# Altium footprint library uartproject.PcbLib: 10 footprints
Each footprint in its own frame and in the unit in brackets; x right, y up, seen from the top. Pads: shape width x height; smd on the part's side, far side on the other; paste and mask are expansions set on the pad; w line width, h text height; cw(c..) or ccw(c..) is an arc to the next point about the centre after c.
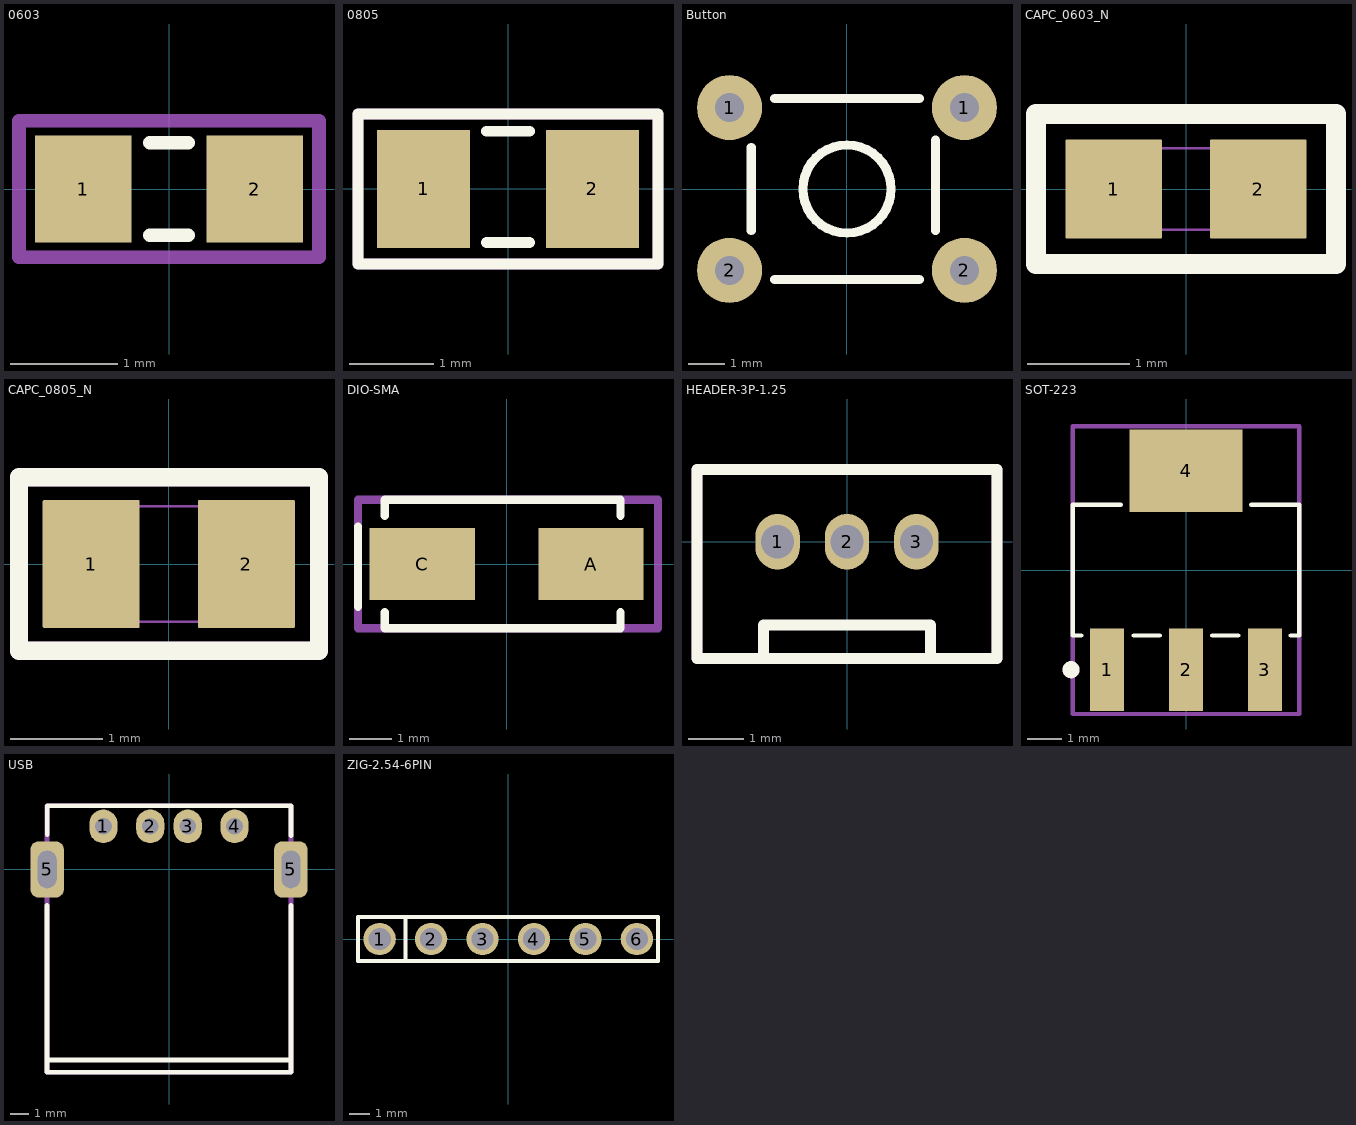
[diagram p0: the footprints below, top view; thin cyan lines are the x and y axes]

## 0603 [mm]
pads (2):
  rect 0.9x1 smd: 1(-0.8,0) 2(0.8,0)
Top Overlay:
  lines w0.127: -0.178,-0.432 0.178,-0.432 ; -0.178,0.432 0.178,0.432
Mechanical 13:
  lines w0.127: -1.397,-0.635 -1.397,0.635 1.397,0.635 1.397,-0.635 -1.397,-0.635
  text ".Designator" at -1.41,-0.21 h0.8
Mechanical 15:
  lines w0.127: -1.397,-0.635 1.397,-0.635 1.397,0.635 -1.397,0.635 -1.397,-0.635
  text ".Comment" at -1.4,-0.19 h0.8
3D body "User Library-FB_1608-1.STEP": height 0.8, standoff 0, extent -0.8,-0.4 0.8,0.4

## 0805 [mm]
pads (2):
  rect 1.1x1.397 smd: 1(-1,0) 2(1,0)
Top Overlay:
  lines w0.127: -0.254,-0.635 0.254,-0.635 ; -0.254,0.685 -0.127,0.685 0.127,0.685 0.254,0.685 ; -1.778,-0.889 1.778,-0.889 1.778,0.889 -1.778,0.889 -1.778,-0.889
Mechanical 13:
  lines w0.127: -1.778,-0.889 1.778,-0.889 1.778,0.889 -1.778,0.889 -1.778,-0.889
  text ".Designator" at -1.41,-0.21 h0.8
Mechanical 15:
  lines w0.127: -1.778,-0.889 1.778,-0.889 1.778,0.889 -1.778,0.889 -1.778,-0.889
  text ".Comment" at -1.4,-0.19 h0.8
3D body "User Library-FB_2012-1.STEP": height 0.85, standoff 0, extent -1,-0.625 1,0.625

## Button [mm]
pads (4):
  round 1.8 hole 0.8: 1(-3.25,2.25) 1(3.25,2.25) 2(-3.25,-2.25) 2(3.25,-2.25)
Top Overlay:
  circle w0.254: c0,0 r1.221
  lines w0.254: -2.65,-1.15 -2.65,1.15 ; -2,-2.5 2,-2.5 ; -2,2.5 2,2.5 ; 2.45,-1.15 2.45,1.35
3D body "TL1105AFxxxx.stp": height 5.21, standoff -3.34, extent -3.895,-3.036 3.999,2.964

## CAPC_0603_N [mm]
pads (2):
  rrect2% 0.95x0.97 smd: 1(-0.71,0) 2(0.71,0)
Top Overlay:
  lines w0.2: -1.473,-0.737 1.473,-0.737 1.473,0.737 -1.473,0.737 -1.473,-0.737
Mechanical 12:
  lines w0.025: -0.8,-0.4 0.8,-0.4 ; -0.8,-0.4 -0.8,0.4 ; -0.8,-0.4 -0.8,0.4 ; -0.8,-0.4 -0.4,-0.4 -0.4,0.4 -0.8,0.4 ; -0.8,0.4 0.8,0.4 ; 0.8,-0.4 0.8,0.4 ; 0.8,-0.4 0.4,-0.4 0.4,0.4 0.8,0.4 ; 0.8,-0.4 0.8,0.4
Mechanical 13:
  lines w0.2: -1.473,-0.737 1.473,-0.737 1.473,0.737 -1.473,0.737 -1.473,-0.737
  text ".Designator" at -1.346,-0.279 h1
3D body "CAPC160X80X80L40.STEP": height 0.8, standoff 0, extent -0.8,-0.4 0.8,0.4

## CAPC_0805_N [mm]
pads (2):
  rrect2% 1.05x1.38 smd: 1(-0.84,0) 2(0.84,0)
Top Overlay:
  lines w0.2: -1.621,-0.94 1.626,-0.94 1.626,0.94 -1.621,0.94 -1.621,-0.94
Mechanical 12:
  lines w0.025: -1,-0.625 -0.5,-0.625 -0.5,0.625 -1,0.625 ; -1,-0.625 -1,0.625 ; -1,-0.625 -1,0.625 ; -1,-0.625 1,-0.625 ; -1,0.625 1,0.625 ; 1,-0.625 1,0.625 ; 1,-0.625 0.5,-0.625 0.5,0.625 1,0.625 ; 1,-0.625 1,0.625
Mechanical 13:
  lines w0.2: -1.621,-0.94 1.626,-0.94 1.626,0.94 -1.621,0.94 -1.621,-0.94
  text ".Designator" at -1.397,-0.305 h1
3D body "CAPC200X125X95L50.STEP": height 0.95, standoff 0, extent -1,-0.625 1,0.625

## DIO-SMA [mm]
pads (2):
  rect 2.5x1.7 smd: A(2,0) C(-2,0)
Top Overlay:
  lines w0.2: -3.524,-1.016 -3.524,0.889 ; -2.889,-1.143 -2.889,-1.524 2.699,-1.524 2.699,-1.143 ; -2.889,1.143 -2.889,1.524 2.699,1.524 2.699,1.143
Mechanical 13:
  lines w0.2: -3.524,-1.524 -3.524,1.524 3.588,1.524 3.588,-1.524 -3.524,-1.524
  text ".Designator" at -2.3,-0.3 h1
3D body "SMB.STEP": height 2.3, standoff 0.02, extent -2.743,-1.397 2.743,1.397

## HEADER-3P-1.25 [mm]
pads (3):
  oval 0.8x1 hole 0.6: 1(-1.25,0) 2(0,0) 3(1.25,0)
Top Overlay:
  lines w0.2: -1.5,-2.1 -1.5,-1.5 1.5,-1.5 1.5,-2.1 ; -2.7,-2.1 2.7,-2.1 2.7,1.3 -2.7,1.3 -2.7,-2.1
Mechanical 13:
  lines w0.2: -2.7,-2.1 -2.7,1.3 2.7,1.3 2.7,-2.1 -2.7,-2.1
  text ".Designator" at -2.7,-0.8 h1.5
Mechanical 15:
  lines w0.2: -2.7,-2.1 -2.7,1.3 2.7,1.3 2.7,-2.1 -2.7,-2.1
  text ".Comment" at -2.4,-0.8 h1.5
3D body "47568.stp": height 4.27, standoff -2.33, extent -2.7,-2.1 2.7,1.3

## SOT-223 [mm]
pads (4):
  rect 1x2.4 smd: 1(-2.3,-2.9) 2(0,-2.9) 3(2.3,-2.9)
  rect 3.3x2.4 smd: 4(0,2.9)
Top Overlay:
  circle w0.25: c-3.35,-2.9 r0.125
  lines w0.127: -3.048,-1.905 -3.302,-1.905 -3.302,1.905 -1.905,1.905 ; -1.524,-1.905 -0.762,-1.905 ; 0.762,-1.905 1.524,-1.905 ; 1.905,1.905 3.302,1.905 3.302,-1.651 3.302,-1.905 3.048,-1.905
Mechanical 13:
  lines w0.127: -3.302,-4.191 -3.302,4.191 3.302,4.191 3.302,-4.191 -3.302,-4.191
  text ".Designator" at -2.286,-0.635 h1
Mechanical 15:
  lines w0.127: -3.302,-4.191 -3.302,4.191 3.302,4.191 3.302,-4.191 -3.302,-4.191
  text ".Comment" at -2.286,-0.635 h1
3D body "SW3DPS-SOT-223-DEFAULT.step": height 1.68, standoff 0, extent -3.25,-3.556 3.25,3.404

## USB [mm]
pads (6):
  oval 1.5x1.8 hole 0.9: 1(-3.5,2.3) 2(-1,2.3) 3(1,2.3) 4(3.5,2.3)
  rrect50% 1.8x3 hole 2 slot 1 at 0 deg: 5(-6.5,0) 5(6.5,0)
Top Overlay:
  lines w0.254: -6.502,-1.905 -6.502,-10.817 6.501,-10.817 6.501,-1.905 ; -6.499,1.854 -6.499,3.396 6.501,3.396 6.501,1.805 ; -6.452,-10.16 6.452,-10.16
Mechanical 13:
  lines w0.254: -6.502,-10.817 6.501,-10.817 6.501,3.396 -6.499,3.396 -6.502,3.393 -6.502,-10.817

## ZIG-2.54-6PIN [mm]
pads (6):
  round 1.6 hole 1.1: 1(-6.35,0) 2(-3.81,0) 3(-1.27,0) 4(1.27,0) 5(3.81,0) 6(6.35,0)
Top Overlay:
  lines w0.2: -5.08,-1.016 -5.08,1.016 ; -7.417,-1.092 -7.417,1.092 7.391,1.092 7.391,-1.092 -7.417,-1.092
Mechanical 13:
  lines w0.2: -7.417,-1.092 -7.417,1.092 7.391,1.092 7.391,-1.092 -7.417,-1.092
  text ".Designator" at -5.385,-0.305 h1.5
Mechanical 15:
  lines w0.2: -7.417,-1.092 7.391,-1.092 7.391,1.092 -7.417,1.092 -7.417,-1.092
  text ".Comment" at -5.969,-0.483 h1.5